# Altium footprint library alexsb.PCBLIB: 444 footprints (part 10 of 28)
Each footprint in its own frame and in the unit in brackets; x right, y up, seen from the top. Pads: shape width x height; smd on the part's side, far side on the other; paste and mask are expansions set on the pad; w line width, h text height; cw(c..) or ccw(c..) is an arc to the next point about the centre after c.
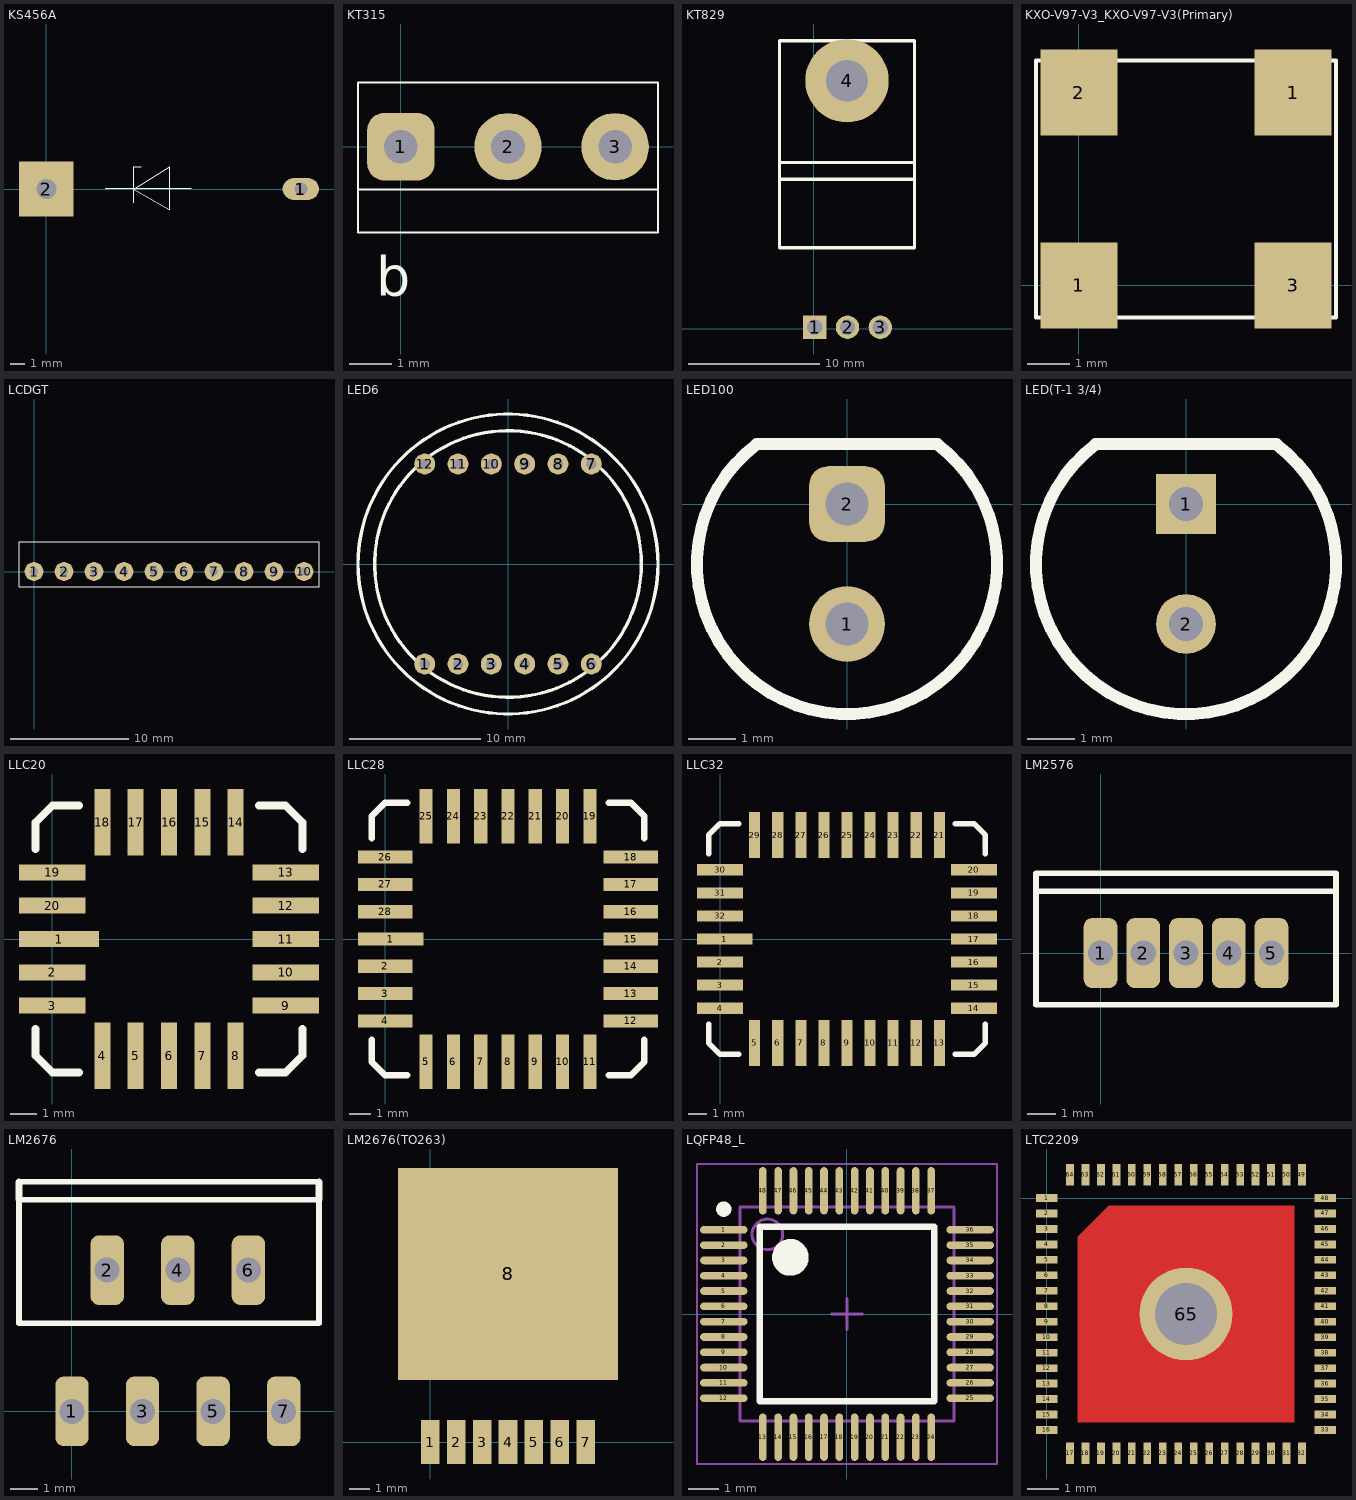
[diagram p9: the footprints below, top view; thin cyan lines are the x and y axes]

## KS456A [mil]
pads (2):
  oval 100x60 hole 35.43: 1(700,0)
  rect 150x150 hole 55: 2(0,0)
Top Overlay:
  lines w1: 162.2,1.57 398.43,1.57 ; 240.94,-37.8 240.94,60.63 260.63,60.63 ; 240,0 339.37,-57.48 339.37,60.63 240,0

## KT315 [mm]
pads (3):
  rrect50% 1.6x1.6 hole 0.8: 1(0,0)
  round 1.6 hole 0.8: 2(2.54,0) 3(5.08,0)
Top Overlay:
  lines w0.05: -1.016,-1.016 6.096,-1.016 ; -1.016,-2.032 -1.016,1.524 6.096,1.524 6.096,-2.032 -1.016,-2.032
  text "b" at -0.589,-3.528 h0.94

## KT829 [mil]
pads (4):
  rect 70x70 hole 46: 1(3.15,4.72)
  round 70 hole 46: 2(101.57,4.72) 3(200,4.72)
  round 250 hole 125: 4(100,743.48)
Top Overlay:
  lines w10: -102,448.48 302,448.48 ; -102,498.48 302,498.48 ; -102,243.48 302,243.48 302,863.48 -102,863.48 -102,243.48

## KXO-V97-V3_KXO-V97-V3(Primary) [mm]
pads (4):
  rect 1.8x2 smd: 1(0,0) 1(5,4.5) 2(0,4.5) 3(5,0)
Top Overlay:
  lines w0.1: -1,-0.75 6,-0.75 6,0.25 6,5.25 -1,5.25 -1,4.25 -1,-0.75

## LCDGT [mm]
pads (10):
  round 1.6 hole 0.7: 1(0,0) 2(2.54,0) 3(5.08,0) 4(7.62,0) 5(10.16,0) 6(12.7,0) 7(15.24,0) 8(17.78,0) 9(20.32,0) 10(22.86,0)
Top Overlay:
  lines w0.05: -1.27,-1.27 24.13,-1.27 24.13,2.54 -1.27,2.54 -1.27,-1.27

## LED6 [mm]
pads (12):
  round 1.6 hole 0.8: 1(-6.35,-7.62) 2(-3.81,-7.62) 3(-1.27,-7.62) 4(1.27,-7.62) 5(3.81,-7.62) 6(6.35,-7.62) 7(6.35,7.62) 8(3.81,7.62) 9(1.27,7.62) 10(-1.27,7.62) 11(-3.81,7.62) 12(-6.35,7.62)
Top Overlay:
  circle w0.25: c0,0 r10.16
  circle w0.25: c0,0 r11.43

## LED100 [mm]
pads (2):
  round 1.6 hole 0.9: 1(0,-2.54)
  rrect50% 1.6x1.6 hole 0.9: 2(0,0)
Top Overlay:
  lines w0.254: -1.911,1.266 ccw(c0,-1.27) 1.911,1.266 ; -1.905,1.27 1.905,1.27

## LED(T-1 3/4) [mil]
pads (2):
  rect 50x50 hole 28: 1(0,0)
  round 50 hole 28: 2(0,-100)
Top Overlay:
  lines w10: -75.23,49.83 ccw(c0,-50) 75.23,49.83 ; -75,50 75,50

## LLC20 [mil]
pads (20):
  rect 120x24 smd: 1(10,0)
  rect 100x24 smd: 2(0,-50) 3(0,-100) 9(350,-100) 10(350,-50) 11(350,0) 12(350,50) 13(350,100) 19(0,100) 20(0,50)
  rect 24x100 smd: 4(75,-175) 5(125,-175) 6(175,-175) 7(225,-175) 8(275,-175) 14(275,175) 15(225,175) 16(175,175) 17(125,175) 18(75,175)
Top Overlay:
  lines w12: -25,-135 -25,-175 0,-200 40,-200 ; -25,135 -25,175 0,200 40,200 ; 310,-200 350,-200 375,-175 375,-135 ; 310,200 350,200 375,175 375,135

## LLC28 [mil]
pads (28):
  rect 120x24 smd: 1(10,0)
  rect 100x24 smd: 2(0,-50) 3(0,-100) 4(0,-150) 12(450,-150) 13(450,-100) 14(450,-50) 15(450,0) 16(450,50) 17(450,100) 18(450,150) 26(0,150) 27(0,100) 28(0,50)
  rect 24x100 smd: 5(75,-225) 6(125,-225) 7(175,-225) 8(225,-225) 9(275,-225) 10(325,-225) 11(375,-225) 19(375,225) 20(325,225) 21(275,225) 22(225,225) 23(175,225) 24(125,225) 25(75,225)
Top Overlay:
  lines w12: -25,-185 -25,-225 0,-250 40,-250 ; -25,185 -25,225 0,250 40,250 ; 410,-250 450,-250 475,-225 475,-185 ; 410,250 450,250 475,225 475,185

## LLC32 [mil]
pads (32):
  rect 120x24 smd: 1(10,0)
  rect 100x24 smd: 2(0,-50) 3(0,-100) 4(0,-150) 14(550,-150) 15(550,-100) 16(550,-50) 17(550,0) 18(550,50) 19(550,100) 20(550,150) 30(0,150) 31(0,100) 32(0,50)
  rect 24x100 smd: 5(75,-225) 6(125,-225) 7(175,-225) 8(225,-225) 9(275,-225) 10(325,-225) 11(375,-225) 12(425,-225) 13(475,-225) 21(475,225) 22(425,225) 23(375,225) 24(325,225) 25(275,225) 26(225,225) 27(175,225) 28(125,225) 29(75,225)
Top Overlay:
  lines w12: -25,-185 -25,-225 0,-250 40,-250 ; -25,185 -25,225 0,250 40,250 ; 510,-250 550,-250 575,-225 575,-185 ; 510,250 550,250 575,225 575,185

## LM2576 [mm]
pads (5):
  rrect50% 1.2x2.5 hole 0.9: 1(0,0) 2(1.524,0) 3(3.048,0) 4(4.572,0) 5(6.096,0)
Top Overlay:
  lines w0.2: -2.302,2.2 8.398,2.2 ; -2.302,-1.85 8.398,-1.85 8.398,2.85 -2.302,2.85 -2.302,-1.85

## LM2676 [mm]
pads (7):
  rrect50% 1.2x2.5 hole 0.9: 1(0,0) 2(1.27,5.08) 3(2.54,0) 4(3.81,5.08) 5(5.08,0) 6(6.35,5.08) 7(7.62,0)
Top Overlay:
  lines w0.2: -1.905,8.255 8.89,8.255 ; -1.905,3.175 8.89,3.175 8.89,7.62 -1.905,7.62 -1.905,3.175
  lines w0.254: -1.905,7.62 -1.905,8.255 ; 8.89,7.62 8.89,8.255

## LM2676(TO263) [mm]
pads (8):
  rect 0.91x2.16 smd: 1(0,0) 2(1.27,0) 3(2.54,0) 4(3.81,0) 5(5.08,0) 6(6.35,0) 7(7.62,0)
  rect 10.8x10.41 smd: 8(3.81,8.255)

## LQFP48_L [mm] "Thin QFP, 48-Leads, Body 7x7mm, Pitch 0.5mm, IPC High Density"
height 1.6
pads (48):
  oval 1.55x0.25 smd: 1(-4.025,2.75) 2(-4.025,2.25) 3(-4.025,1.75) 4(-4.025,1.25) 5(-4.025,0.75) 6(-4.025,0.25) 7(-4.025,-0.25) 8(-4.025,-0.75) 9(-4.025,-1.25) 10(-4.025,-1.75) 11(-4.025,-2.25) 12(-4.025,-2.75) 25(4.025,-2.75) 26(4.025,-2.25) 27(4.025,-1.75) 28(4.025,-1.25) 29(4.025,-0.75) 30(4.025,-0.25) 31(4.025,0.25) 32(4.025,0.75) 33(4.025,1.25) 34(4.025,1.75) 35(4.025,2.25) 36(4.025,2.75)
  oval 0.25x1.55 smd: 13(-2.75,-4.025) 14(-2.25,-4.025) 15(-1.75,-4.025) 16(-1.25,-4.025) 17(-0.75,-4.025) 18(-0.25,-4.025) 19(0.25,-4.025) 20(0.75,-4.025) 21(1.25,-4.025) 22(1.75,-4.025) 23(2.25,-4.025) 24(2.75,-4.025) 37(2.75,4.025) 38(2.25,4.025) 39(1.75,4.025) 40(1.25,4.025) 41(0.75,4.025) 42(0.25,4.025) 43(-0.25,4.025) 44(-0.75,4.025) 45(-1.25,4.025) 46(-1.75,4.025) 47(-2.25,4.025) 48(-2.75,4.025)
Top Overlay:
  circle w0.6: c-1.85,1.85 r0.3
  circle w0.25: c-4.025,3.425 r0.125
  lines w0.2: -2.85,-2.85 2.85,-2.85 2.85,2.85 -2.85,2.85 -2.85,-2.85
Mechanical 13:
  circle w0.1: c-2.6,2.6 r0.5
  lines w0.1: -3.5,-3.5 3.5,-3.5 3.5,3.5 -3.5,3.5 -3.5,-3.5
Mechanical 15:
  lines w0.05: -4.9,-4.9 4.9,-4.9 4.9,4.9 -4.9,4.9 -4.9,-4.9
  lines w0.1: -0.5,0 0.5,0 ; 0,-0.5 0,0.5
3D body: height 1.6, standoff 0, extent -3.5,-3.5 3.5,3.5

## LTC2209 [mm]
pads (65):
  rect 0.7x0.25 smd: 1(0,0) 2(0,-0.5) 3(0,-1) 4(0,-1.5) 5(0,-2) 6(0,-2.5) 7(0,-3) 8(0,-3.5) 9(0,-4) 10(0,-4.5) 11(0,-5) 12(0,-5.5) 13(0,-6) 14(0,-6.5) 15(0,-7) 16(0,-7.5) 33(9,-7.5) 34(9,-7) 35(9,-6.5) 36(9,-6) 37(9,-5.5) 38(9,-5) 39(9,-4.5) 40(9,-4) 41(9,-3.5) 42(9,-3) 43(9,-2.5) 44(9,-2) 45(9,-1.5) 46(9,-1) 47(9,-0.5) 48(9,0)
  rect 0.25x0.7 smd: 17(0.75,-8.25) 18(1.25,-8.25) 19(1.75,-8.25) 20(2.25,-8.25) 21(2.75,-8.25) 22(3.25,-8.25) 23(3.75,-8.25) 24(4.25,-8.25) 25(4.75,-8.25) 26(5.25,-8.25) 27(5.75,-8.25) 28(6.25,-8.25) 29(6.75,-8.25) 30(7.25,-8.25) 31(7.75,-8.25) 32(8.25,-8.25) 49(8.25,0.75) 50(7.75,0.75) 51(7.25,0.75) 52(6.75,0.75) 53(6.25,0.75) 54(5.75,0.75) 55(5.25,0.75) 56(4.75,0.75) 57(4.25,0.75) 58(3.75,0.75) 59(3.25,0.75) 60(2.75,0.75) 61(2.25,0.75) 62(1.75,0.75) 63(1.25,0.75) 64(0.75,0.75)
  round 3 hole 2: 65(4.5,-3.75)
Top Layer:
  region: 2,-0.25 1,-1.25 1,-7.25 8,-7.25 8,-0.25